# Altium footprint library PcbLib1.PcbLib: 1 footprints
Each footprint in its own frame and in the unit in brackets; x right, y up, seen from the top. Pads: shape width x height; smd on the part's side, far side on the other; paste and mask are expansions set on the pad; w line width, h text height; cw(c..) or ccw(c..) is an arc to the next point about the centre after c.
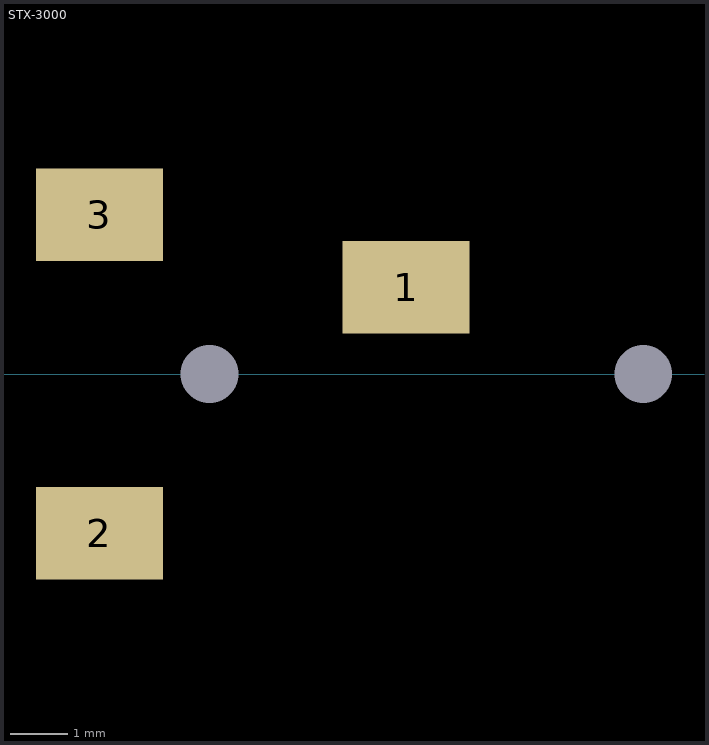
[diagram p0: the footprint, top view; thin cyan lines are the x and y axes]

## STX-3000 [mm]
pads (5):
  rect 2.2x1.6 all layers, no hole: 1(10.002,1.5) 2(4.702,-2.75) 3(4.702,2.75)
  round 0 hole 1: 1(14.102,0) 2(6.602,0)
Bottom Layer:
  text "Sadman" at 4.4,7.131 h2